# Altium footprint library Flex-PTC-weld-6x4-30.PcbLib: 1 footprints
Each footprint in its own frame and in the unit in brackets; x right, y up, seen from the top. Pads: shape width x height; smd on the part's side, far side on the other; paste and mask are expansions set on the pad; w line width, h text height; cw(c..) or ccw(c..) is an arc to the next point about the centre after c.
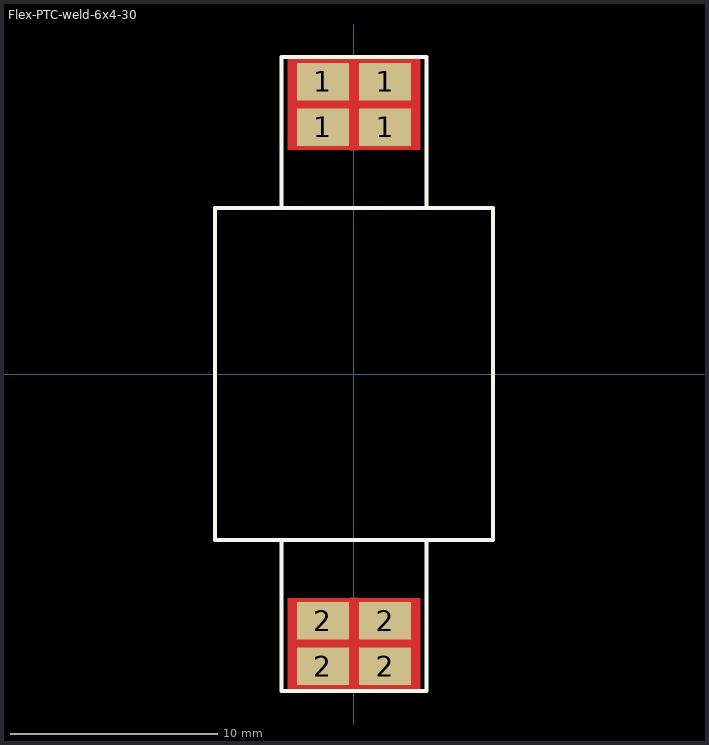
[diagram p0: the footprint, top view; thin cyan lines are the x and y axes]

## Flex-PTC-weld-6x4-30 [mm]
pads (8):
  rect 2.5x1.8 smd paste-0.05 mask-999: 1(-1.5,11.9) 1(-1.5,14.1) 1(1.5,11.9) 1(1.5,14.1) 2(-1.5,-14.1) 2(-1.5,-11.9) 2(1.5,-14.1) 2(1.5,-11.9)
Top Layer:
  rectangle: 0.2,-12.8 3.2,-10.8
  rectangle: 0.2,-15.2 3.2,-13.2
  rectangle: -3.2,-12.8 -0.2,-10.8
  rectangle: -3.2,-15.2 -0.2,-13.2
  rectangle: -3.2,10.8 -0.2,12.8
  rectangle: -3.2,13.2 -0.2,15.2
  rectangle: 0.2,10.8 3.2,12.8
  rectangle: 0.2,13.2 3.2,15.2
  pour cut-out: -3.2,-13.2 -3.2,-12.8 3.2,-12.8 3.2,-13.2
  pour cut-out: -0.2,-10.8 0.2,-10.8 0.2,-15.2 -0.2,-15.2
  pour cut-out: -0.2,15.2 0.2,15.2 0.2,10.8 -0.2,10.8
  pour cut-out: -3.2,12.8 -3.2,13.2 3.2,13.2 3.2,12.8
Top Overlay:
  lines w0.2: -3.5,-8 -3.5,-15.3 3.5,-15.3 3.5,-8 ; -3.5,8 -3.5,15.3 3.5,15.3 3.5,8 ; -6.7,-8 -6.7,8 6.7,8 6.7,-8 -6.7,-8
Top Solder:
  region: -3,-14.5 -3.01,-11.5 -2.971,-11.305 -2.86,-11.14 -2.695,-11.029 -2.5,-10.99 -2.5,-11 2.5,-10.99 2.695,-11.029 2.86,-11.14 2.971,-11.305 3.01,-11.5 3,-11.5 3.01,-14.5 2.971,-14.695 2.86,-14.86 2.695,-14.971 2.5,-15.01 2.5,-15 -2.5,-15.01 -2.695,-14.971 -2.86,-14.86 -2.971,-14.695 -3.01,-14.5
  region: -3,11.5 -3.01,14.5 -2.971,14.695 -2.86,14.86 -2.695,14.971 -2.5,15.01 -2.5,15 2.5,15.01 2.695,14.971 2.86,14.86 2.971,14.695 3.01,14.5 3,14.5 3.01,11.5 2.971,11.305 2.86,11.14 2.695,11.029 2.5,10.99 2.5,11 -2.5,10.99 -2.695,11.029 -2.86,11.14 -2.971,11.305 -3.01,11.5
Mechanical 1:
  lines w0.1: 2.5,-13 2.5,-12.983 ; 2.5,13 2.5,13.017 ; 2.5,-12.983 cw(c3.183,-12.983) 2.7,-12.5 2.717,-12.483 ccw(c2.034,-11.8) 3,-11.8 ccw(c2.2,-11.8) 2.2,-11 0,-11 -2.2,-11 ccw(c-2.2,-11.8) -3,-11.8 ccw(c-2.034,-11.8) -2.717,-12.483 -2.7,-12.5 cw(c-3.183,-12.983) -2.5,-12.983 -2.5,-13 -2.5,-13.017 cw(c-3.183,-13.017) -2.7,-13.5 -2.717,-13.517 ccw(c-2.034,-14.2) -3,-14.2 ccw(c-2.2,-14.2) -2.2,-15 2.2,-15 ccw(c2.2,-14.2) 3,-14.2 ccw(c2.034,-14.2) 2.717,-13.517 2.7,-13.5 cw(c3.183,-13.017) 2.5,-13.017 2.5,-12.983 ; 2.5,13.017 cw(c3.183,13.017) 2.7,13.5 2.717,13.517 ccw(c2.034,14.2) 3,14.2 ccw(c2.2,14.2) 2.2,15 0,15 -2.2,15 ccw(c-2.2,14.2) -3,14.2 ccw(c-2.034,14.2) -2.717,13.517 -2.7,13.5 cw(c-3.183,13.017) -2.5,13.017 -2.5,13 -2.5,12.983 cw(c-3.183,12.983) -2.7,12.5 -2.717,12.483 ccw(c-2.034,11.8) -3,11.8 ccw(c-2.2,11.8) -2.2,11 2.2,11 ccw(c2.2,11.8) 3,11.8 ccw(c2.034,11.8) 2.717,12.483 2.7,12.5 cw(c3.183,12.983) 2.5,12.983 2.5,13.017
3D body: height 0.5, standoff 0, extent -3.008,-15.007 3.008,-10.993
3D body: height 0.5, standoff 0, extent -3.008,10.993 3.008,15.007
3D body: height 0.8, standoff 0, extent -6.625,-15.15 6.625,14.95